# Altium footprint library sign_lib.PcbLib: 24 footprints (part 1 of 2)
Each footprint in its own frame and in the unit in brackets; x right, y up, seen from the top. Pads: shape width x height; smd on the part's side, far side on the other; paste and mask are expansions set on the pad; w line width, h text height; cw(c..) or ccw(c..) is an arc to the next point about the centre after c.
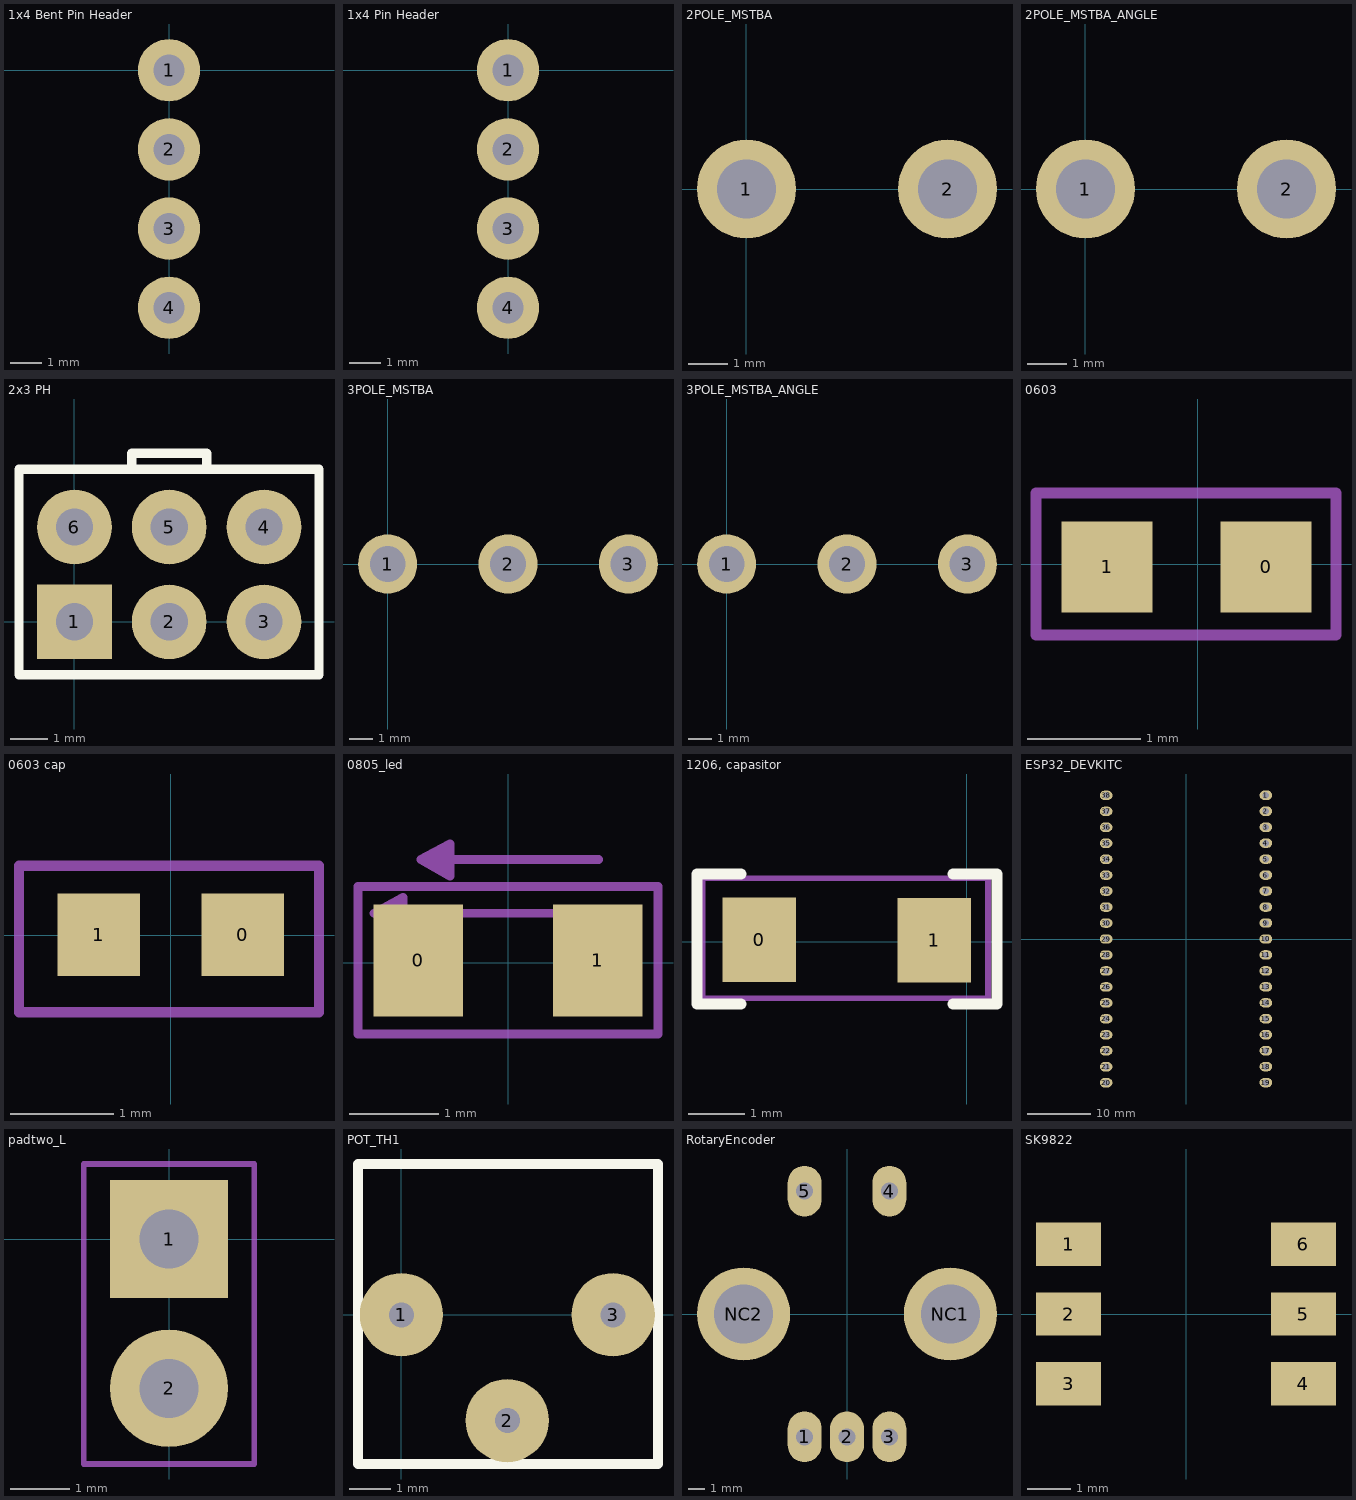
[diagram p0: the footprints below, top view; thin cyan lines are the x and y axes]

## 1x4 Bent Pin Header [mm] "1x4 Bent Pin Header SMD, 2.54 mm"
pads (4):
  round 2 hole 1: 1(0,0) 2(0,-2.54) 3(0,-5.08) 4(0,-7.62)
3D body "User Library-Header_Male_RA_Low_2Pin.STEP": height 2.51, standoff -3, extent -9.86,-8.89 0.27,-3.81
3D body "User Library-Header_Male_RA_Low_2Pin.STEP": height 2.51, standoff -3, extent -9.86,-3.81 0.27,1.27

## 1x4 Pin Header [mm] "1x6 Pin Header 2.54 mm"
pads (4):
  round 2 hole 1 mask+0: 1(0,0) 2(0,-2.54) 3(0,-5.08) 4(0,-7.62)
3D body "User Library-Header Vertical 2_54mm Pitch2-1.STEP": height 5.94, standoff -2.94, extent -1.236,-1.316 1.304,1.224
3D body "User Library-Header Vertical 2_54mm Pitch2-1.STEP": height 5.94, standoff -2.94, extent -1.236,-3.856 1.304,-1.316
3D body "User Library-Header Vertical 2_54mm Pitch2-1.STEP": height 5.94, standoff -2.94, extent -1.236,-6.396 1.304,-3.856
3D body "User Library-Header Vertical 2_54mm Pitch2-1.STEP": height 5.94, standoff -2.94, extent -1.236,-8.936 1.304,-6.396

## 2POLE_MSTBA [mm]
pads (2):
  round 2.5 hole 1.5 mask+0: 1(0,0) 2(5.08,0)
3D body "1936018.stp": height 12, standoff -3.9, extent -5.463,-3.772 10.517,4.828

## 2POLE_MSTBA_ANGLE [mm]
pads (2):
  round 2.5 hole 1.5 mask+0: 1(0,0) 2(5.08,0)
3D body "1759017.stp": height 8.6, standoff -3.5, extent -2.527,-2.039 7.633,9.964

## 2x3 PH [mm] "2x3 Pin Header, 2.54 pitch"
pads (6):
  rect 2x2 hole 1: 1(0,0)
  round 2 hole 1: 2(2.54,0) 3(5.08,0) 4(5.08,2.54) 5(2.54,2.54) 6(0,2.54)
Top Overlay:
  lines w0.254: -1.486,-1.422 6.553,-1.422 6.553,4.089 -1.486,4.089 -1.486,-1.422 ; 1.537,4.089 3.543,4.089 3.543,4.521 1.537,4.521 1.537,4.089
3D body "User Library-Header3x2_100_TH.STEP": height 8.45, standoff -2.53, extent -1.257,-1.219 6.363,3.861

## 3POLE_MSTBA [mm]
pads (3):
  round 2.5 hole 1.5 mask+0: 1(0,0) 2(5.08,0) 3(10.16,0)
3D body "1758021.stp": height 12, standoff -3.9, extent -2.523,-4.804 12.717,3.796

## 3POLE_MSTBA_ANGLE [mm]
pads (3):
  round 2.5 hole 1.5 mask+0: 1(0,0) 2(5.08,0) 3(10.16,0)
3D body "1770494.stp": height 8.6, standoff -3.5, extent -3.314,-1.978 13.686,10.022

## 0603 [mm]
pads (2):
  rect 0.8x0.8 smd: 0(0.6,-0.025) 1(-0.8,-0.025)
Mechanical 13:
  lines w0.1: -1.425,-0.625 -1.425,0.625 1.215,0.625 1.215,-0.625 -1.425,-0.625
  text "'.Designator'" at -1.212,-0.423 h0.2
3D body "User Library-Panasonic0603.STEP": height 0.45, standoff 0, extent -0.832,-0.434 0.768,0.386

## 0603 cap [mm]
pads (2):
  rect 0.8x0.8 smd: 0(0.7,0.002) 1(-0.7,0.002)
Mechanical 13:
  lines w0.1: -1.475,-0.75 -1.475,-0.394 -1.475,0.319 -1.475,0.675 1.44,0.675 1.44,-0.75 -1.475,-0.75
  text ".Designator" at -1.278,-0.6 h0.25
3D body "User Library-cap_0603_lowprofile.STEP": height 0.6, standoff 0, extent -0.828,-0.397 0.772,0.402

## 0805_led [mm]
pads (2):
  rect 1x1.25 smd: 0(-1,0.025) 1(1,0.025)
Mechanical 13:
  lines w0.1: 0.485,0.55 -1.498,0.55 ; 1.01,1.15 -0.972,1.15 ; -1.498,0.55 -1.175,0.725 ; -1.498,0.55 -1.175,0.367 ; -1.175,0.367 -1.175,0.725 ; -1.175,0.367 -1.282,0.55 -1.175,0.725 ; -0.972,1.15 -0.65,0.968 ; -0.972,1.15 -0.65,1.325 ; -0.65,0.968 -0.757,1.15 -0.65,1.325 ; -0.65,0.968 -0.65,1.325 ; -1.675,-0.8 -1.675,0.85 1.675,0.85 1.675,-0.8 -1.675,-0.8
  text ".Designator" at -1.425,-0.65 h0.4
3D body "User Library-led_0805.STEP": height 1.1, standoff 0, extent -1.035,-0.6 0.985,0.65

## 1206, capasitor [mm] "Generic 1206"
pads (2):
  rect 1.3x1.5 smd: 0(-3.673,0.038) 1(-0.575,0.026)
Top Overlay:
  lines w0.2: -4,-1.1 -4.775,-1.1 -4.775,-1 -4.775,-0.767 -4.775,0.843 -4.775,1.2 -4,1.2 ; -0.242,-1.1 0.533,-1.1 0.533,1.2 -0.242,1.2
Mechanical 13:
  lines w0.1: -4.675,-1 -4.675,1.125 0.375,1.125 0.375,-1 -4.675,-1
  text ".Designator" at -3.925,-0.375 h1
3D body "User Library-cap_1206_0_95.STEP": height -0.55, standoff -1.5, extent -3.776,-0.786 -0.576,0.814

## ESP32_DEVKITC [mm]
pads (38):
  oval 2x1.5 hole 1: 1(12.7,22.875) 2(12.7,20.335) 3(12.7,17.795) 4(12.7,15.255) 5(12.7,12.715) 6(12.7,10.175) 7(12.7,7.635) 8(12.7,5.095) 9(12.7,2.555) 10(12.7,0.015) 11(12.7,-2.525) 12(12.7,-5.065) 13(12.7,-7.605) 14(12.7,-10.145) 15(12.7,-12.685) 16(12.7,-15.225) 17(12.7,-17.765) 18(12.7,-20.305) 19(12.7,-22.845) 20(-12.7,-22.855) 21(-12.7,-20.315) 22(-12.7,-17.775) 23(-12.7,-15.235) 24(-12.7,-12.695) 25(-12.7,-10.155) 26(-12.7,-7.615) 27(-12.7,-5.075) 28(-12.7,-2.535) 29(-12.7,0.005) 30(-12.7,2.545) 31(-12.7,5.085) 32(-12.7,7.625) 33(-12.7,10.165) 34(-12.7,12.705) 35(-12.7,15.245) 36(-12.7,17.785) 37(-12.7,20.325) 38(-12.7,22.865)
3D body "ESP32-DEVKITC-32D--3DModel-STEP-56544.STEP": height 6.75, standoff -5.94, extent -13.969,-24.801 13.971,30.299

## padtwo_L [mm] "Pad Diameter 2 mm, Hole  0.3 mm, Pitch 2.54 mm"
pads (2):
  rect 2x2 hole 1: 1(0,0)
  round 2 hole 1: 2(0,-2.54)
Mechanical 13:
  lines w0.1: -1.45,-3.825 -1.45,1.275 1.45,1.275 1.45,-3.825 -1.45,-3.825
  text ".Designator" at 0.35,-3.275 h1
3D body "User Library-Pin Header Strip.STEP": height 8.51, standoff -3.68, extent -1.46,-3.81 1.46,1.27

## POT_TH1 [mm] "270 Degree"
pads (3):
  round 2 hole 0.6: 1(0,0) 2(2.54,-2.54) 3(5.08,0)
Top Overlay:
  lines w0.25: -1.042,3.618 -1.042,-3.582 6.158,-3.582 6.158,3.618 ; -1.042,3.618 6.158,3.618 ; -1.042,3.618 6.158,3.618
3D body "SW3dPS-3362P-1-102LF.STEP": height 4.4, standoff -3, extent -0.764,-3.286 5.836,3.314

## RotaryEncoder [mm]
pads (7):
  oval 2x3 hole 1 mask+0: 1(-2.5,-7.25) 2(0,-7.25) 3(2.5,-7.25) 4(2.5,7.25) 5(-2.5,7.25)
  round 5.5 hole 3.5 mask+0: NC1(6.105,0) NC2(-6.105,0)
3D body "User Library-PEC11-4025F-N0024.STEP": height 32.5, standoff -3.29, extent -6.526,-7.284 6.526,6.711

## SK9822 [mm]
pads (6):
  rect 1.5x1 smd: 1(-2.7,1.6) 2(-2.7,0) 3(-2.7,-1.6) 4(2.7,-1.6) 5(2.7,0) 6(2.7,1.6)
3D body "11821.STEP": height 1.75, standoff 0, extent -2.7,-2.5 2.7,2.5